# Altium footprint library footprints.PCBLIB: 172 footprints (part 1 of 11)
Each footprint in its own frame and in the unit in brackets; x right, y up, seen from the top. Pads: shape width x height; smd on the part's side, far side on the other; paste and mask are expansions set on the pad; w line width, h text height; cw(c..) or ccw(c..) is an arc to the next point about the centre after c.
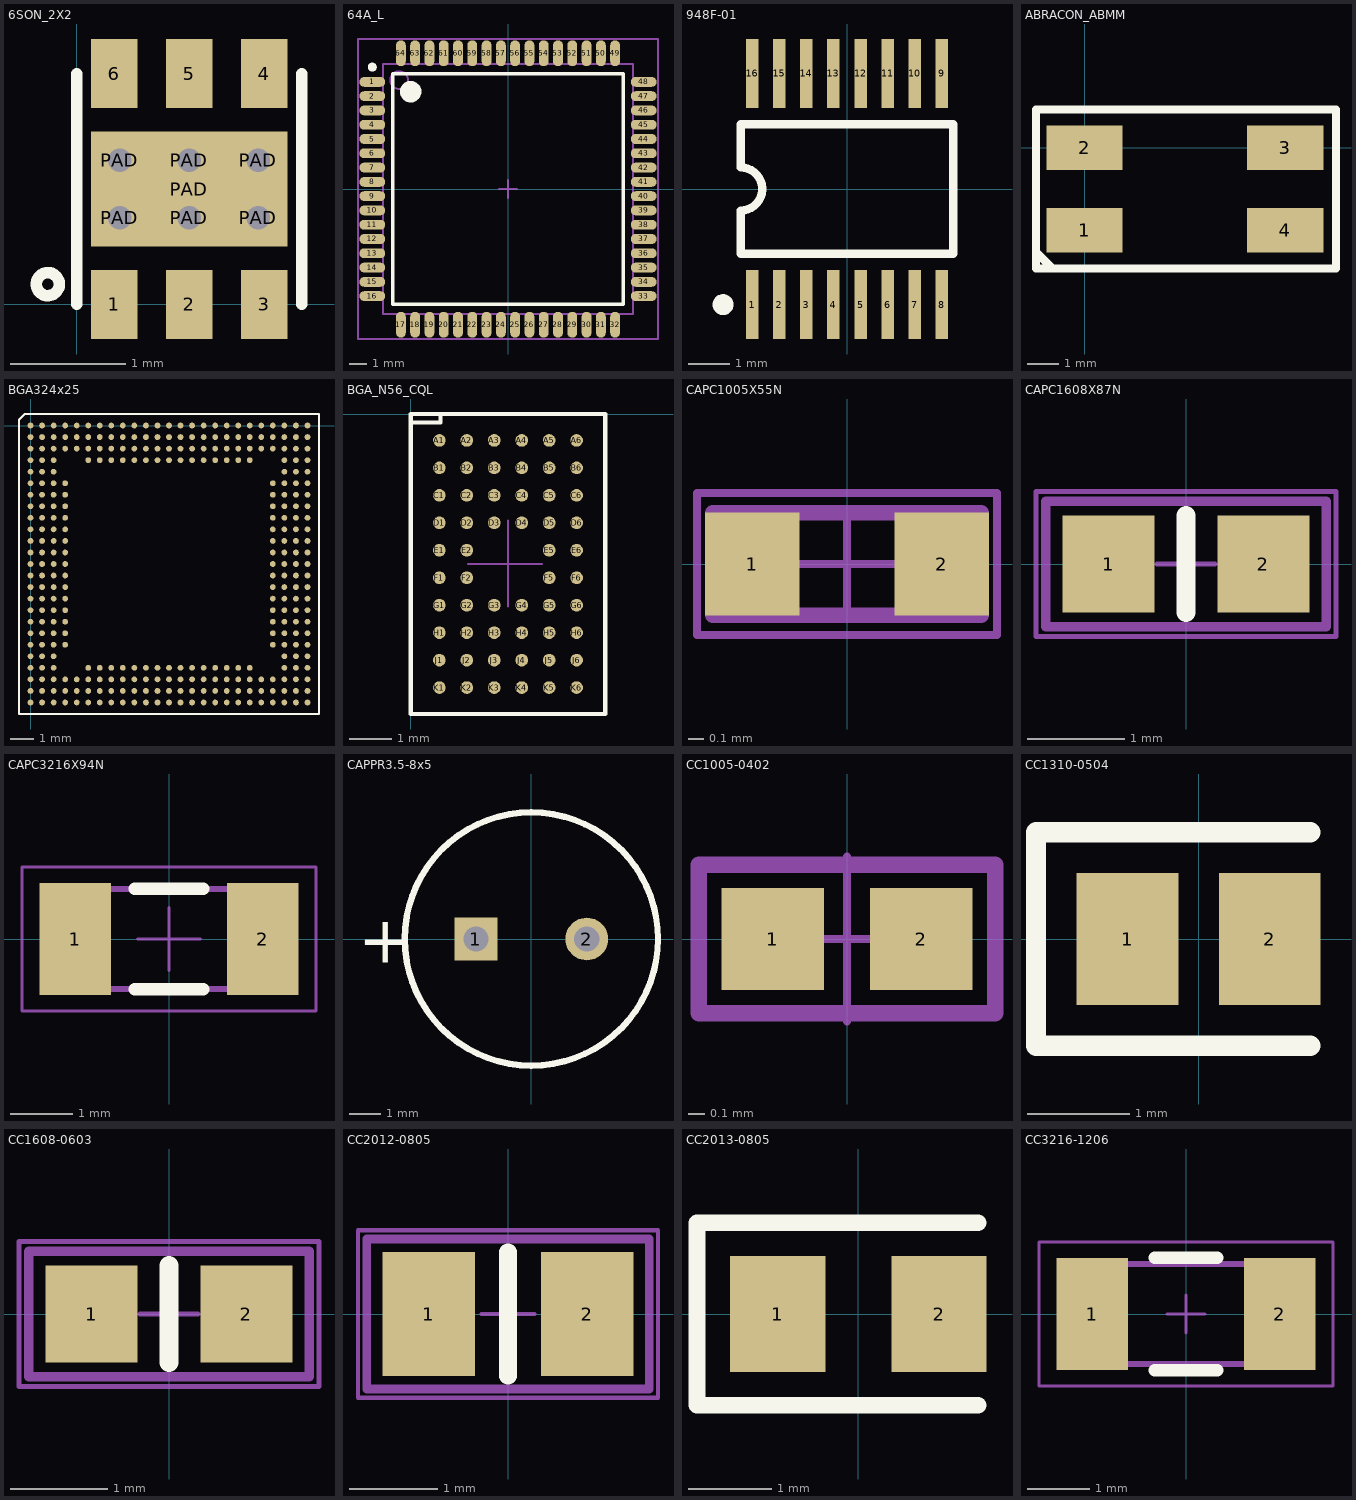
[diagram p0: the footprints below, top view; thin cyan lines are the x and y axes]

## 6SON_2X2 [mm]
pads (13):
  rect 0.4x0.6 smd paste-10: 1(0.325,0) 2(0.975,0) 3(1.625,0) 4(1.625,2) 5(0.975,2) 6(0.325,2)
  round 0.457 hole 0.203 unplated paste-10: PAD(0.375,0.75) PAD(0.375,1.25) PAD(0.975,0.75) PAD(0.975,1.25) PAD(1.575,0.75) PAD(1.575,1.25)
  rect 1.7x1 smd paste-10: PAD(0.975,1)
Top Overlay:
  circle w0.1: c-0.25,0.175 r0.1
  lines w0.1: 0,0 0,2 ; 1.95,0 1.95,2

## 64A_L [mm] "Thin QFP, 64-Leads, Body 14x14mm, Pitch 0.8mm, IPC High Density"
height 1.2
pads (64):
  oval 1.45x0.55 smd: 1(-7.6,6) 2(-7.6,5.2) 3(-7.6,4.4) 4(-7.6,3.6) 5(-7.6,2.8) 6(-7.6,2) 7(-7.6,1.2) 8(-7.6,0.4) 9(-7.6,-0.4) 10(-7.6,-1.2) 11(-7.6,-2) 12(-7.6,-2.8) 13(-7.6,-3.6) 14(-7.6,-4.4) 15(-7.6,-5.2) 16(-7.6,-6) 33(7.6,-6) 34(7.6,-5.2) 35(7.6,-4.4) 36(7.6,-3.6) 37(7.6,-2.8) 38(7.6,-2) 39(7.6,-1.2) 40(7.6,-0.4) 41(7.6,0.4) 42(7.6,1.2) 43(7.6,2) 44(7.6,2.8) 45(7.6,3.6) 46(7.6,4.4) 47(7.6,5.2) 48(7.6,6)
  oval 0.55x1.45 smd: 17(-6,-7.6) 18(-5.2,-7.6) 19(-4.4,-7.6) 20(-3.6,-7.6) 21(-2.8,-7.6) 22(-2,-7.6) 23(-1.2,-7.6) 24(-0.4,-7.6) 25(0.4,-7.6) 26(1.2,-7.6) 27(2,-7.6) 28(2.8,-7.6) 29(3.6,-7.6) 30(4.4,-7.6) 31(5.2,-7.6) 32(6,-7.6) 49(6,7.6) 50(5.2,7.6) 51(4.4,7.6) 52(3.6,7.6) 53(2.8,7.6) 54(2,7.6) 55(1.2,7.6) 56(0.4,7.6) 57(-0.4,7.6) 58(-1.2,7.6) 59(-2,7.6) 60(-2.8,7.6) 61(-3.6,7.6) 62(-4.4,7.6) 63(-5.2,7.6) 64(-6,7.6)
Top Overlay:
  circle w0.6: c-5.45,5.45 r0.3
  circle w0.25: c-7.6,6.825 r0.125
  lines w0.2: -6.45,-6.45 6.45,-6.45 6.45,6.45 -6.45,6.45 -6.45,-6.45
Mechanical 13:
  circle w0.1: c-6.1,6.1 r0.5
  lines w0.1: -7,-7 7,-7 7,7 -7,7 -7,-7
Mechanical 15:
  lines w0.1: -0.5,0 0.5,0 ; 0,-0.5 0,0.5 ; -8.4,-8.4 8.4,-8.4 8.4,8.4 -8.4,8.4 -8.4,-8.4
3D body: height 1.2, standoff 0, extent -7,-7 7,7

## 948F-01 [mm] "Shrink Small Outline; 16 Leads; Body Width 4.4 mm; Pitch 0.65 mm"
height 1.2
pads (16):
  rect 0.3x1.65 smd: 1(-2.275,-2.775) 2(-1.625,-2.775) 3(-0.975,-2.775) 4(-0.325,-2.775) 5(0.325,-2.775) 6(0.975,-2.775) 7(1.625,-2.775) 8(2.275,-2.775) 9(2.275,2.775) 10(1.625,2.775) 11(0.975,2.775) 12(0.325,2.775) 13(-0.325,2.775) 14(-0.975,2.775) 15(-1.625,2.775) 16(-2.275,2.775)
Top Overlay:
  circle w0.25: c-2.975,-2.775 r0.125
  lines w0.2: -2.55,-1.55 -2.55,-0.517 ccw(c-2.55,0) -2.55,0.517 -2.55,1.55 2.55,1.55 2.55,-1.55 -2.55,-1.55

## ABRACON_ABMM [mm]
pads (4):
  rect 2.4x1.4 smd: 1(0,-2.6) 2(0,0) 3(6.3,0) 4(6.3,-2.6)
Top Overlay:
  lines w0.254: -1.508,-3.292 -1,-3.8 ; -1.524,-3.8 -1.524,1.2 7.9,1.2 7.9,-3.8 -1.524,-3.8

## BGA324x25 [mm]
pads (324):
  round 0.25 smd: A1(0,0) A2(0.5,0) A3(1,0) A4(1.5,0) A5(2,0) A6(2.5,0) A7(3,0) A8(3.5,0) A9(4,0) A10(4.5,0) A11(5,0) A12(5.5,0) A13(6,0) A14(6.5,0) A15(7,0) A16(7.5,0) A17(8,0) A18(8.5,0) A19(9,0) A20(9.5,0) A21(10,0) A22(10.5,0) A23(11,0) A24(11.5,0) A25(12,0) AA1(0,-10) AA2(0.5,-10) AA3(1,-10) AA23(11,-10) AA24(11.5,-10) AA25(12,-10) AB1(0,-10.5) AB2(0.5,-10.5) AB3(1,-10.5) AB6(2.5,-10.5) AB7(3,-10.5) AB8(3.5,-10.5) AB9(4,-10.5) AB10(4.5,-10.5) AB11(5,-10.5) AB12(5.5,-10.5) AB13(6,-10.5) AB14(6.5,-10.5) AB15(7,-10.5) AB16(7.5,-10.5) AB17(8,-10.5) AB18(8.5,-10.5) AB19(9,-10.5) AB20(9.5,-10.5) AB23(11,-10.5) AB24(11.5,-10.5) AB25(12,-10.5) AC1(0,-11) AC2(0.5,-11) AC3(1,-11) AC4(1.5,-11) AC5(2,-11) AC6(2.5,-11) AC7(3,-11) AC8(3.5,-11) AC9(4,-11) AC10(4.5,-11) AC11(5,-11) AC12(5.5,-11) AC13(6,-11) AC14(6.5,-11) AC15(7,-11) AC16(7.5,-11) AC17(8,-11) AC18(8.5,-11) AC19(9,-11) AC20(9.5,-11) AC21(10,-11) AC22(10.5,-11) AC23(11,-11) AC24(11.5,-11) AC25(12,-11) AD1(0,-11.5) AD2(0.5,-11.5) AD3(1,-11.5) AD4(1.5,-11.5) AD5(2,-11.5) AD6(2.5,-11.5) AD7(3,-11.5) AD8(3.5,-11.5) AD9(4,-11.5) AD10(4.5,-11.5) AD11(5,-11.5) AD12(5.5,-11.5) AD13(6,-11.5) AD14(6.5,-11.5) AD15(7,-11.5) AD16(7.5,-11.5) AD17(8,-11.5) AD18(8.5,-11.5) AD19(9,-11.5) AD20(9.5,-11.5) AD21(10,-11.5) AD22(10.5,-11.5) AD23(11,-11.5) AD24(11.5,-11.5) AD25(12,-11.5) AE1(0,-12) AE2(0.5,-12) AE3(1,-12) AE4(1.5,-12) AE5(2,-12) AE6(2.5,-12) AE7(3,-12) AE8(3.5,-12) AE9(4,-12) AE10(4.5,-12) AE11(5,-12) AE12(5.5,-12) AE13(6,-12) AE14(6.5,-12) AE15(7,-12) AE16(7.5,-12) AE17(8,-12) AE18(8.5,-12) AE19(9,-12) AE20(9.5,-12) AE21(10,-12) AE22(10.5,-12) AE23(11,-12) AE24(11.5,-12) AE25(12,-12) B1(0,-0.5) B2(0.5,-0.5) B3(1,-0.5) B4(1.5,-0.5) B5(2,-0.5) B6(2.5,-0.5) B7(3,-0.5) B8(3.5,-0.5) B9(4,-0.5) B10(4.5,-0.5) B11(5,-0.5) B12(5.5,-0.5) B13(6,-0.5) B14(6.5,-0.5) B15(7,-0.5) B16(7.5,-0.5) B17(8,-0.5) B18(8.5,-0.5) B19(9,-0.5) B20(9.5,-0.5) B21(10,-0.5) B22(10.5,-0.5) B23(11,-0.5) B24(11.5,-0.5) B25(12,-0.5) C1(0,-1) C2(0.5,-1) C3(1,-1) C4(1.5,-1) C5(2,-1) C6(2.5,-1) C7(3,-1) C8(3.5,-1) C9(4,-1) C10(4.5,-1) C11(5,-1) C12(5.5,-1) C13(6,-1) C14(6.5,-1) C15(7,-1) C16(7.5,-1) C17(8,-1) C18(8.5,-1) C19(9,-1) C20(9.5,-1) C21(10,-1) C22(10.5,-1) C23(11,-1) C24(11.5,-1) C25(12,-1) D1(0,-1.5) D2(0.5,-1.5) D3(1,-1.5) D6(2.5,-1.5) D7(3,-1.5) D8(3.5,-1.5) D9(4,-1.5) D10(4.5,-1.5) D11(5,-1.5) D12(5.5,-1.5) D13(6,-1.5) D14(6.5,-1.5) D15(7,-1.5) D16(7.5,-1.5) D17(8,-1.5) D18(8.5,-1.5) D19(9,-1.5) D20(9.5,-1.5) D23(11,-1.5) D24(11.5,-1.5) D25(12,-1.5) E1(0,-2) E2(0.5,-2) E3(1,-2) E23(11,-2) E24(11.5,-2) E25(12,-2) F1(0,-2.5) F2(0.5,-2.5) F3(1,-2.5) F4(1.5,-2.5) F22(10.5,-2.5) F23(11,-2.5) F24(11.5,-2.5) F25(12,-2.5) G1(0,-3) G2(0.5,-3) G3(1,-3) G4(1.5,-3) G22(10.5,-3) G23(11,-3) G24(11.5,-3) G25(12,-3) H1(0,-3.5) H2(0.5,-3.5) H3(1,-3.5) H4(1.5,-3.5) H22(10.5,-3.5) H23(11,-3.5) H24(11.5,-3.5) H25(12,-3.5) J1(0,-4) J2(0.5,-4) J3(1,-4) J4(1.5,-4) J22(10.5,-4) J23(11,-4) J24(11.5,-4) J25(12,-4) K1(0,-4.5) K2(0.5,-4.5) K3(1,-4.5) K4(1.5,-4.5) K22(10.5,-4.5) K23(11,-4.5) K24(11.5,-4.5) K25(12,-4.5) L1(0,-5) L2(0.5,-5) L3(1,-5) L4(1.5,-5) L22(10.5,-5) L23(11,-5) L24(11.5,-5) L25(12,-5) M1(0,-5.5) M2(0.5,-5.5) M3(1,-5.5) M4(1.5,-5.5) M22(10.5,-5.5) M23(11,-5.5) M24(11.5,-5.5) M25(12,-5.5) N1(0,-6) N2(0.5,-6) N3(1,-6) N4(1.5,-6) N22(10.5,-6) N23(11,-6) N24(11.5,-6) N25(12,-6) P1(0,-6.5) P2(0.5,-6.5) P3(1,-6.5) P4(1.5,-6.5) P22(10.5,-6.5) P23(11,-6.5) P24(11.5,-6.5) P25(12,-6.5) R1(0,-7) R2(0.5,-7) R3(1,-7) R4(1.5,-7) R22(10.5,-7) R23(11,-7) R24(11.5,-7) R25(12,-7) T1(0,-7.5) T2(0.5,-7.5) T3(1,-7.5) T4(1.5,-7.5) T22(10.5,-7.5) T23(11,-7.5) T24(11.5,-7.5) T25(12,-7.5) U1(0,-8) U2(0.5,-8) U3(1,-8) U4(1.5,-8) U22(10.5,-8) U23(11,-8) U24(11.5,-8) U25(12,-8) V1(0,-8.5) V2(0.5,-8.5) V3(1,-8.5) V4(1.5,-8.5) V22(10.5,-8.5) V23(11,-8.5) V24(11.5,-8.5) V25(12,-8.5) W1(0,-9) W2(0.5,-9) W3(1,-9) W4(1.5,-9) W22(10.5,-9) W23(11,-9) W24(11.5,-9) W25(12,-9) Y1(0,-9.5) Y2(0.5,-9.5) Y3(1,-9.5) Y4(1.5,-9.5) Y22(10.5,-9.5) Y23(11,-9.5) Y24(11.5,-9.5) Y25(12,-9.5)
Top Overlay:
  lines w0.1: -0.5,-12.5 -0.5,0.25 -0.25,0.5 12.5,0.5 12.5,-12.5 -0.5,-12.5

## BGA_N56_CQL [mm]
pads (56):
  round 0.3 smd mask+0.07: A1(0.675,-0.625) A2(1.325,-0.625) A3(1.975,-0.625) A4(2.625,-0.625) A5(3.275,-0.625) A6(3.925,-0.625) B1(0.675,-1.275) B2(1.325,-1.275) B3(1.975,-1.275) B4(2.625,-1.275) B5(3.275,-1.275) B6(3.925,-1.275) C1(0.675,-1.925) C2(1.325,-1.925) C3(1.975,-1.925) C4(2.625,-1.925) C5(3.275,-1.925) C6(3.925,-1.925) D1(0.675,-2.575) D2(1.325,-2.575) D3(1.975,-2.575) D4(2.625,-2.575) D5(3.275,-2.575) D6(3.925,-2.575) E1(0.675,-3.225) E2(1.325,-3.225) E5(3.275,-3.225) E6(3.925,-3.225) F1(0.675,-3.875) F2(1.325,-3.875) F5(3.275,-3.875) F6(3.925,-3.875) G1(0.675,-4.525) G2(1.325,-4.525) G3(1.975,-4.525) G4(2.625,-4.525) G5(3.275,-4.525) G6(3.925,-4.525) H1(0.675,-5.175) H2(1.325,-5.175) H3(1.975,-5.175) H4(2.625,-5.175) H5(3.275,-5.175) H6(3.925,-5.175) J1(0.675,-5.825) J2(1.325,-5.825) J3(1.975,-5.825) J4(2.625,-5.825) J5(3.275,-5.825) J6(3.925,-5.825) K1(0.675,-6.475) K2(1.325,-6.475) K3(1.975,-6.475) K4(2.625,-6.475) K5(3.275,-6.475) K6(3.925,-6.475)
Top Overlay:
  lines w0.1: 0,-0.2 0.7,-0.2 0.7,0 ; 0,-7.1 0,0 4.6,0 4.6,-7.1 0,-7.1
Mechanical 15:
  lines w0.05: 1.35,-3.55 3.1,-3.55 ; 1.95,-3.55 2.65,-3.55 ; 2.3,-4.55 2.3,-2.525 ; 2.3,-4.2 2.3,-3.2

## CAPC1005X55N [mm] "Chip Capacitor, Body 1.0x0.55mm, IPC Medium Density"
height 0.55
pads (2):
  rect 0.6x0.65 smd: 1(-0.6,0) 2(0.6,0)
Mechanical 14:
  lines w0.1: -0.85,-0.325 -0.85,0.325 0.85,0.325 0.85,-0.325 -0.85,-0.325
Mechanical 15:
  lines w0.05: -0.3,0 0.3,0 ; 0,-0.3 0,0.3 ; -0.95,-0.45 0.95,-0.45 0.95,0.45 -0.95,0.45 -0.95,-0.45
3D body: height 0.55, standoff 0, extent 0.3,-0.275 0.525,0.275
3D body: height 0.55, standoff 0, extent -0.525,-0.275 -0.3,0.275
3D body: height 0.55, standoff 0, extent -0.3,-0.275 0.3,0.275

## CAPC1608X87N [mm] "Chip Capacitor, Body 1.6x0.8mm IPC Medium Density"
height 0.87
pads (2):
  rect 0.95x1 smd: 1(-0.8,0) 2(0.8,0)
Top Overlay:
  lines w0.2: 0,-0.5 0,0.5
Mechanical 14:
  lines w0.1: -1.45,-0.65 -1.45,0.65 1.45,0.65 1.45,-0.65 -1.45,-0.65
Mechanical 15:
  lines w0.05: -0.3,0 0.3,0 ; 0,-0.3 0,0.3 ; -1.55,-0.75 1.55,-0.75 1.55,0.75 -1.55,0.75 -1.55,-0.75
3D body: height 0.87, standoff 0, extent 0.5,-0.475 0.875,0.475
3D body: height 0.87, standoff 0, extent -0.875,-0.475 -0.5,0.475
3D body: height 0.87, standoff 0, extent -0.5,-0.475 0.5,0.475

## CAPC3216X94N [mm] "Chip Capacitor, Body 3.2x1.6mm, IPC Medium Density"
height 0.94
pads (2):
  rect 1.15x1.8 smd: 1(-1.5,0) 2(1.5,0)
Top Overlay:
  lines w0.2: -0.55,-0.8 0.55,-0.8 ; -0.55,0.8 0.55,0.8
Mechanical 14:
  lines w0.1: -1.6,-0.8 -1.6,0.8 1.6,0.8 1.6,-0.8 -1.6,-0.8
Mechanical 15:
  lines w0.05: -0.5,0 0.5,0 ; 0,-0.5 0,0.5 ; -2.35,-1.15 -2.35,1.15 2.35,1.15 2.35,-1.15 -2.35,-1.15
3D body: height 0.94, standoff 0, extent 0.95,-0.9 1.7,0.9
3D body: height 0.94, standoff 0, extent -0.95,-0.9 0.95,0.9
3D body: height 0.94, standoff 0, extent -1.7,-0.9 -0.95,0.9

## CAPPR3.5-8x5 [mm]
pads (2):
  rect 1.35x1.35 hole 0.8: 1(-1.75,0)
  round 1.35 hole 0.8: 2(1.75,0)
Top Overlay:
  circle w0.2: c0,0 r4
  text "+" at -5.475,-0.75 h1.5

## CC1005-0402 [mm] "Chip Capacitor, Body 1.0x0.55mm, IPC Medium Density"
height 0.55
pads (2):
  rect 0.62x0.62 smd: 1(-0.45,0) 2(0.45,0)
Mechanical 14:
  lines w0.1: -0.9,-0.45 0.9,-0.45 0.9,0.45 -0.9,0.45 -0.9,-0.45
Mechanical 15:
  lines w0.05: -0.5,0 0.5,0 ; 0,-0.5 0,0.5 ; -0.91,-0.46 0.91,-0.46 0.91,0.46 -0.91,0.46 -0.91,-0.46
3D body: height 0.55, standoff 0, extent -0.525,-0.275 0.525,0.275

## CC1310-0504 [mm]
pads (2):
  rect 1x1.3 smd: 1(-0.7,0) 2(0.7,0)
Top Overlay:
  lines w0.2: 1.1,-1.05 -1.6,-1.05 -1.6,1.05 1.1,1.05

## CC1608-0603 [mm] "Chip Capacitor, Body 1.6x0.8mm IPC Medium Density"
height 0.87
pads (2):
  rect 0.95x1 smd: 1(-0.8,0) 2(0.8,0)
Top Overlay:
  lines w0.2: 0,-0.5 0,0.5
Mechanical 14:
  lines w0.1: -1.45,-0.65 1.45,-0.65 1.45,0.65 -1.45,0.65 -1.45,-0.65
Mechanical 15:
  lines w0.05: -0.3,0 0.3,0 ; 0,-0.3 0,0.3 ; -1.55,-0.75 -1.55,0.75 1.55,0.75 1.55,-0.75 -1.55,-0.75
3D body: height 0.87, standoff 0, extent -0.5,-0.475 0.5,0.475
3D body: height 0.87, standoff 0, extent -0.875,-0.475 -0.5,0.475
3D body: height 0.87, standoff 0, extent 0.5,-0.475 0.875,0.475

## CC2012-0805 [mm] "Chip Capacitor, Body 2.0x1.25mm, IPC Medium Density"
height 1.35
pads (2):
  rect 1.05x1.4 smd: 1(-0.9,0) 2(0.9,0)
Top Overlay:
  lines w0.2: 0,-0.7 0,0.7
Mechanical 14:
  lines w0.1: -1.6,-0.85 1.6,-0.85 1.6,0.85 -1.6,0.85 -1.6,-0.85
Mechanical 15:
  lines w0.05: -0.3,0 0.3,0 ; 0,-0.3 0,0.3 ; -1.7,-0.95 1.7,-0.95 1.7,0.95 -1.7,0.95 -1.7,-0.95
3D body: height 1.25, standoff 0, extent -1.05,-0.675 1.05,0.675

## CC2013-0805 [mm]
pads (2):
  rect 1.15x1.4 smd: 1(-0.975,0) 2(0.975,0)
Top Overlay:
  lines w0.2: 1.45,-1.1 -1.95,-1.1 -1.95,1.1 1.45,1.1

## CC3216-1206 [mm] "Chip Capacitor, Body 3.2x1.6mm, IPC Medium Density"
height 0.94
pads (2):
  rect 1.15x1.8 smd: 1(-1.5,0) 2(1.5,0)
Top Overlay:
  lines w0.2: -0.5,-0.9 0.5,-0.9 ; -0.5,0.9 0.5,0.9
Mechanical 14:
  lines w0.1: -1.6,-0.8 1.6,-0.8 1.6,0.8 -1.6,0.8 -1.6,-0.8
Mechanical 15:
  lines w0.05: -0.3,0 0.3,0 ; 0,-0.3 0,0.3 ; -2.35,-1.15 -2.35,1.15 2.35,1.15 2.35,-1.15 -2.35,-1.15
3D body: height 1.4, standoff 0, extent -1.7,-0.9 1.7,0.9